# Altium schematic symbol library MechanicalRelay.SchLib: 4 symbols
Pins are listed as number, name and electrical type; pins without a type are passive.

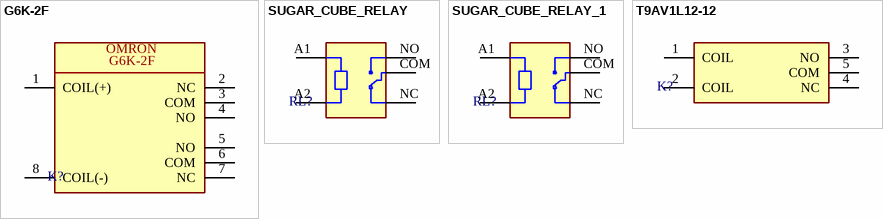
[diagram p0: symbols G6K-2F to T9AV1L12-12]

## G6K-2F
designator K?
SMD RELAY DPDT 2A OMRON; Manufacturer Part Number 1: G6K-2F-Y; Package: SMD-8; Manufacturer 1: OMRON; Supplier 1: Robu; Supplier Part Number 1: R175891
footprint G6K-2F
pins: 1 COIL(+), 2 NC, 3 COM, 4 NO, 5 NO, 6 COM, 7 NC, 8 COIL(-)

## SUGAR_CUBE_RELAY
designator RL?
footprint SUGAR_CUBE_RELAY
pins: A1 COM, A2 COM, COM, NC, NO

## SUGAR_CUBE_RELAY_1
designator RL?
footprint SUGAR_CUBE_RELAY
pins: A1 COM, A2 COM, COM, NC, NO

## T9AV1L12-12
designator K?
General Purpose Relay SPST-NO (1 Form A) 12VDC Coil Through Hole; Value: *; Manufacturer Part Number 1: *; Manufacturer 1: *
footprint T9AV1L12-12 (General Purpose Relay SPST-NO (1 Form A) 12VDC Coil Through Hole)
pins: 1 COIL, 2 COIL, 3 NO, 4 NC, 5 COM